# Altium footprint library buckinductor.PcbLib: 1 footprints
Each footprint in its own frame and in the unit in brackets; x right, y up, seen from the top. Pads: shape width x height; smd on the part's side, far side on the other; paste and mask are expansions set on the pad; w line width, h text height; cw(c..) or ccw(c..) is an arc to the next point about the centre after c.
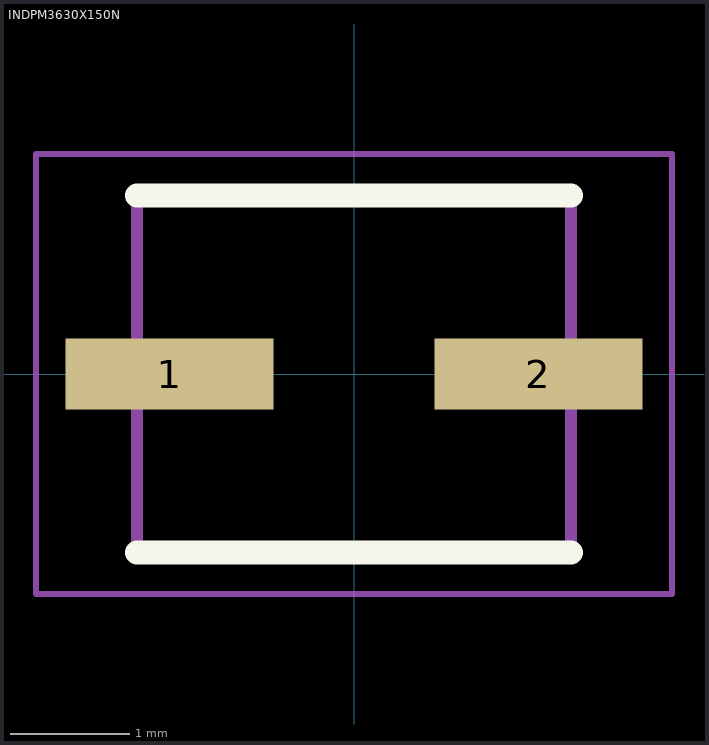
[diagram p0: the footprint, top view; thin cyan lines are the x and y axes]

## INDPM3630X150N [mm]
pads (2):
  rect 1.75x0.6 smd: 1(-1.55,0) 2(1.55,0)
Top Overlay:
  lines w0.2: -1.825,-1.5 1.825,-1.5 ; -1.825,1.5 1.825,1.5
Mechanical 13:
  lines w0.1: -1.825,-1.5 -1.825,1.5 1.825,1.5 1.825,-1.5 -1.825,-1.5
Mechanical 15:
  lines w0.05: -2.675,-1.85 -2.675,1.85 2.675,1.85 2.675,-1.85 -2.675,-1.85
3D body "IHLP1212AEERR47M11.stp": height 1.5, standoff 0, extent -1.825,-1.5 1.825,1.5